# Altium footprint library LPS22HB.PcbLib: 1 footprints
Each footprint in its own frame and in the unit in brackets; x right, y up, seen from the top. Pads: shape width x height; smd on the part's side, far side on the other; paste and mask are expansions set on the pad; w line width, h text height; cw(c..) or ccw(c..) is an arc to the next point about the centre after c.
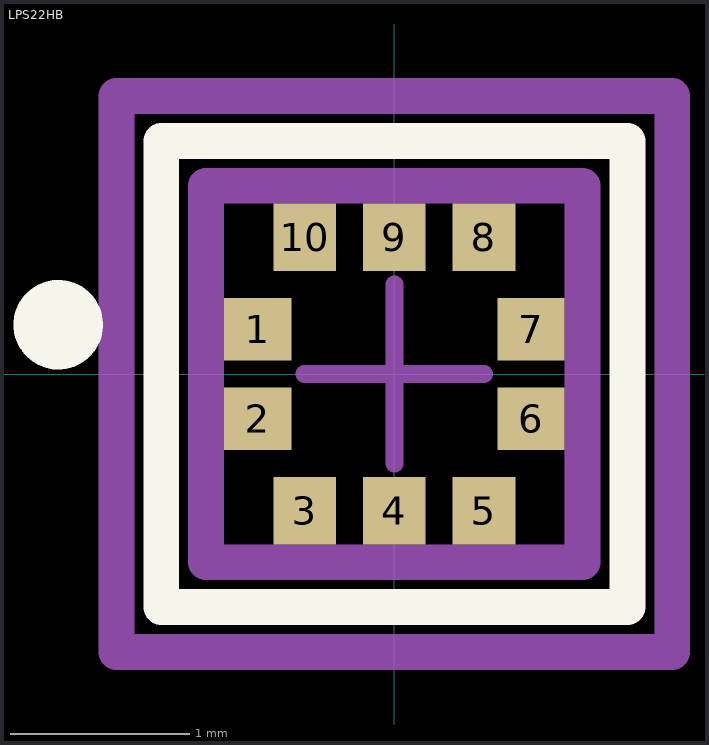
[diagram p0: the footprint, top view; thin cyan lines are the x and y axes]

## LPS22HB [mm]
pads (10):
  rect 0.375x0.35 smd paste+0 mask+0: 1(-0.763,0.25) 2(-0.763,-0.25) 6(0.763,-0.25) 7(0.763,0.25)
  rect 0.35x0.375 smd paste+0 mask+0: 3(-0.5,-0.763) 4(0,-0.763) 5(0.5,-0.763) 8(0.5,0.763) 9(0,0.763) 10(-0.5,0.763)
Top Overlay:
  circle w0.25: c-1.875,0.275 r0.125
  lines w0.2: -1.3,-1.3 1.3,-1.3 1.3,1.3 -1.3,1.3 -1.3,-1.3
Top Assembly:
  lines w0.2: -1.55,-1.55 1.55,-1.55 1.55,1.55 -1.55,1.55 -1.55,-1.55
Top 3D Body:
  lines w0.2: -1.05,-1.05 1.05,-1.05 1.05,1.05 -1.05,1.05 -1.05,-1.05
Top Courtyard:
  lines w0.2: -1.55,-1.55 1.55,-1.55 1.55,1.55 -1.55,1.55 -1.55,-1.55
Top Component Center:
  lines w0.1: -0.5,0 0.5,0 ; 0,-0.5 0,0.5
3D body "IC_STMicroelectronics_LPS22HBTR_eec.STEP": height 0.25, standoff 0, extent -1.55,-1.55 1.55,1.55